# Altium footprint library TI-USON-10.PcbLib: 1 footprints
Each footprint in its own frame and in the unit in brackets; x right, y up, seen from the top. Pads: shape width x height; smd on the part's side, far side on the other; paste and mask are expansions set on the pad; w line width, h text height; cw(c..) or ccw(c..) is an arc to the next point about the centre after c.
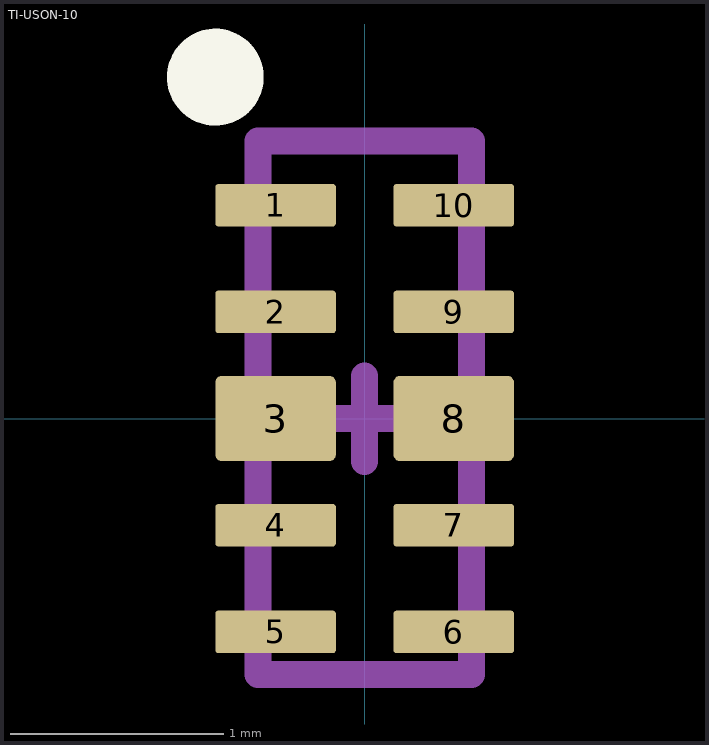
[diagram p0: the footprint, top view; thin cyan lines are the x and y axes]

## TI-USON-10 [mm]
height 0.55
pads (10):
  rrect15% 0.565x0.2 smd mask+0.07: 1(-0.417,1) 2(-0.417,0.5) 4(-0.417,-0.5) 5(-0.417,-1) 6(0.417,-1) 7(0.417,-0.5) 9(0.417,0.5) 10(0.417,1)
  rrect15% 0.565x0.4 smd mask+0.07: 3(-0.417,0) 8(0.417,0)
Top Overlay:
  circle w0.254: c-0.7,1.6 r0.1
Mechanical 13 (Mech13):
  lines w0.127: -0.5,-1.2 0.5,-1.2 0.5,1.3 -0.5,1.3 -0.5,-1.2
Mechanical 15:
  lines w0.127: -0.2,0 0,0 ; 0,-0.2 0,0 ; 0,0.2 0,0 ; 0.2,0 0,0
3D body "UDFN10.STEP": height 0.54, standoff -0.01, extent -0.51,-1.25 0.5,1.25